# Altium schematic symbol library General.SchLib: 173 symbols (part 2 of 4)
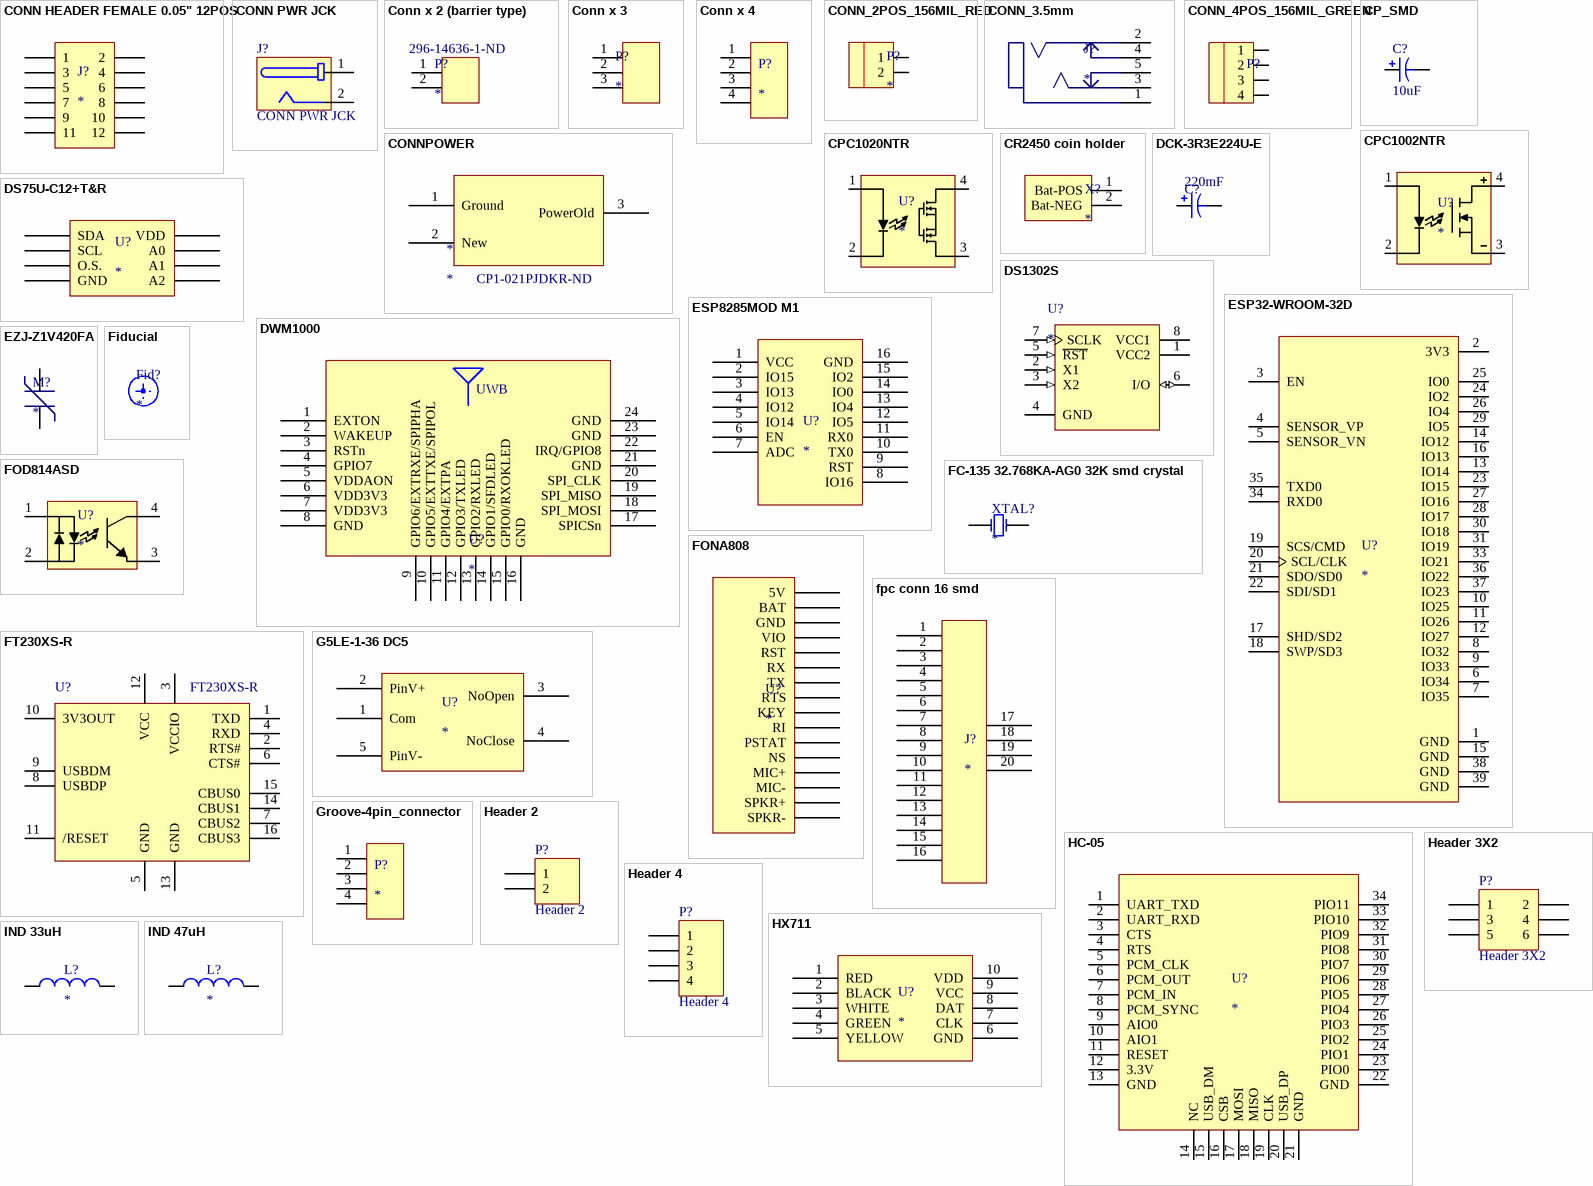
[diagram p5: symbols CONN HEADER FEMALE 0.05" 12POS to IND 47uH]

## Conn x 2 (barrier type)
designator P?  Supplier Part Number 2: 296-14636-1-ND
Manufacturer: TE Connectivity; Manufacturer Part Number: 3-1437652-9; Number of Circuits: 2; Pitch: 0.375" (9.53mm); Current Rating: 25A; Voltage Rating: 300V; Wire Gauge: 12-22 AWG; Top Termination: Screws; Bottom Termination: PC Pin; Barrier Type: 3 Wall (Tri); Material - Insulation: Thermoplastic; Material Flammability Rating: UL94 V-0; Protocol: RS422, RS485; Number of Drivers/Receivers: 1/1; Duplex: Half; Voltage - Supply: 4.75 V ~ 5.25 V; Supplier 1: Digi-Key; RoHS: RoHS Compliant; Category: Connectors, Interconnects; Stock 1: 5495; Pricing 1: 1=1.62, 10=1.14, 50=0.9652, 100=0.9609, 250=0.8114, 500=0.7687, 1000=0.68328, 2500=0.56798, 5000=0.55517 (USD); Packaging: Bulk; Terminal Block Type: Barrier Block; Number of Wire Entries: 2; Number of Rows: 1; Features: -; Color: Black; Terminal Material: Steel; Terminal Finish: Zinc, Clear Chromate; Mounting Type: Through Hole; Operating Temperature: 105°C; ComponentLink1URL: http://www.te.com/commerce/DocumentDelivery/DDEController?Action=srchrtrv&DocNm=3-1437652-9&DocType=Customer+Drawing&DocLang=English; ComponentLink1Description: http://www.te.com/commerce/DocumentDelivery/DDEController?Action=srchrtrv&DocNm=3-1437652-9&DocType=Customer+Drawing&DocLang=English; Supplier Part Number 1: A98481-ND; Supplier 2: Digi-Key; Stock 2: 20336; Pricing 2: 1=0.77, 10=0.68, 100=0.5212, 500=0.412, 1000=0.3296 (USD); Part Status: Active; Type: Transceiver; Data Rate: -; Package / Case: 8-SOIC (0.154", 3.90mm Width); Supplier Device Package: 8-SOIC; ComponentLink2URL: http://www.ti.com/lit/ds/symlink/sn65176b.pdf; ComponentLink2Description: http://www.ti.com/lit/ds/symlink/sn65176b.pdf
footprint BARRIER CONN X 2
pins: 1, 2

## Conn x 3
designator P?
CONN HEADER VERT 3POS .100 TIN; Manufacturer: TE Connectivity; Manufacturer Part Number: 640456-3; Connector Type: Header, Unshrouded; Number of Positions: 3; Number of Positions Loaded: All; Pitch: 0.100" (2.54mm); Supplier 1: Digi-Key; RoHS: RoHS Compliant; Category: Connectors, Interconnects; Stock 1: 62912; Pricing 1: 1=0.2, 10=0.185, 50=0.118, 100=0.1141, 250=0.09832, 500=0.0944, 1000=0.08259, 2500=0.07473, 5000=0.07079 (USD); Packaging: Bulk; Contact Type: Male Pin; Number of Rows: 1; Row Spacing: -; Contact Mating Length: 0.295" (7.49mm); Mounting Type: Through Hole; Termination: Solder; Fastening Type: Friction Lock; Features: -; Contact Finish: Tin; Contact Finish Thickness: -; Color: Natural; ComponentLink1URL: http://www.te.com/commerce/DocumentDelivery/DDEController?Action=srchrtrv&DocNm=640456&DocType=Customer+Drawing&DocLang=English; ComponentLink1Description: http://www.te.com/commerce/DocumentDelivery/DDEController?Action=srchrtrv&DocNm=640456&DocType=Customer+Drawing&DocLang=English; Supplier Part Number 1: A19470-ND
footprint conn x 3
pins: 1, 2, 3

## Conn x 4
designator P?
CONN HEADER VERT 4POS .100 TIN; Manufacturer: TE Connectivity; Manufacturer Part Number: 640454-4; Connector Type: Header, Unshrouded; Number of Positions: 4; Number of Positions Loaded: All; Pitch: 0.100" (2.54mm); Supplier 1: Digi-Key; RoHS: RoHS Compliant; Category: Connectors, Interconnects; Stock 1: 24607; Pricing 1: 1=0.18, 10=0.164, 50=0.1228, 100=0.114, 250=0.10088, 500=0.0965, 1000=0.07895, 2500=0.07237, 5000=0.07018 (USD); Packaging: Bulk; Contact Type: Male Pin; Number of Rows: 1; Row Spacing: -; Contact Mating Length: 0.295" (7.49mm); Mounting Type: Through Hole; Termination: Solder; Fastening Type: -; Features: Polarizing Key; Contact Finish: Tin; Contact Finish Thickness: -; Color: Natural; ComponentLink1URL: http://www.te.com/commerce/DocumentDelivery/DDEController?Action=srchrtrv&DocNm=640454&DocType=Customer+Drawing&DocLang=English; ComponentLink1Description: http://www.te.com/commerce/DocumentDelivery/DDEController?Action=srchrtrv&DocNm=640454&DocType=Customer+Drawing&DocLang=English; Supplier Part Number 1: A19431-ND
footprint conn x 4
pins: 1, 2, 3, 4

## CONN_2POS_156MIL_RED
designator P?
156mill 2pos connector; Manufacturer: TE Connectivity AMP Connectors; Manufacturer Part Number: 4-1123723-2; Connector Type: Header; Pitch - Mating: 0.156" (3.96mm); Style: Board to Cable/Wire; Shrouding: Shrouded - 1 Wall; Number of Positions: 2; Number of Positions Loaded: All; Contact Length - Mating: 0.303" (7.70mm); Contact Length - Post: 0.146" (3.70mm); Overall Contact Length: 0.567" (14.40mm); Material Flammability Rating: UL94 V-0; Current Rating: 7.5A; Voltage Rating: 250VAC; Supplier 1: Digi-Key; RoHS: RoHS Compliant; Category: Connectors, Interconnects; Stock 1: 19085; Pricing 1: 1=0.17, 10=0.158, 25=0.1352, 50=0.1182, 100=0.1098, 250=0.09712, 500=0.09288, 1000=0.076, 2500=0.06966 (USD); Packaging: Bulk; Part Status: Active; Contact Type: Male Pin; Number of Rows: 1; Row Spacing - Mating: -; Mounting Type: Through Hole; Termination: Solder; Fastening Type: Friction Lock; Insulation Height: 0.118" (3.00mm); Contact Shape: Square; Contact Finish - Mating: Tin; Contact Finish Thickness - Mating: -; Contact Finish - Post: Tin; Contact Material: Brass; Insulation Material: Polybutylene Terephthalate (PBT), Glass Filled; Features: -; Operating Temperature: -25°C ~ 105°C; Ingress Protection: -; Insulation Color: Red; Mated Stacking Heights: -; Contact Finish Thickness - Post: -; Applications: General Purpose, Industrial, Lighting; ComponentLink1URL: http://www.te.com/commerce/DocumentDelivery/DDEController?Action=srchrtrv&DocNm=1123723&DocType=Customer+Drawing&DocLang=English; ComponentLink1Description: http://www.te.com/commerce/DocumentDelivery/DDEController?Action=srchrtrv&DocNm=1123723&DocType=Customer+Drawing&DocLang=English; Supplier Part Number 1: A117603-ND
footprint CONN_2POS_156MIL
pins: 1, 2

## CONN_3.5mm
designator J?
CONN JACK STEREO 3.5MM SMD; Manufacturer: Switchcraft Inc.; Manufacturer Part Number: 35RASMT4BHNTRX; Connector Type: Phone Jack; Gender: Female; Plug/Mating Plug Diameter: 3.50mm (0.141", 1/8", Mini Plug) - Headphone; Number of Positions/Contacts: 3 Conductors, 5 Contacts; Internal Switch(s): Two Switches; Shielding: Unshielded; Color - Contact: Gold; Voltage - Rated: 250VAC; Current Rating: 3A; Supplier 1: Digi-Key; RoHS: RoHS Compliant; Category: Connectors, Interconnects; Stock 1: 3537; Pricing 1: 1=0.65 (USD); Signal Lines: Stereo; Mounting Type: Surface Mount, Right Angle; Termination: Solder; Features: -; Contact Material: Copper Alloy; Contact Material - Plating: Silver; Housing Material: Thermoplastic; Housing Color: Black; Operating Temperature: -25°C ~ 85°C; Packaging: Digi-Reel®; ComponentLink1URL: http://www.switchcraft.com/Drawings/35rasmt4bhntrx_cd.pdf; ComponentLink1Description: http://www.switchcraft.com/Drawings/35rasmt4bhntrx_cd.pdf; Supplier Part Number 1: SC1488-6-ND
footprint JACK_3.5MM
pins: 1, 2, 3, 4, 5

## CONN_4POS_156MIL_GREEN
designator P?  (value not drawn)
3.96 EP HDR ASSY 4P(GREEN); Manufacturer: TE Connectivity AMP Connectors; Manufacturer Part Number: 6-1123723-4; Connector Type: Header; Pitch - Mating: 0.156" (3.96mm); Style: Board to Cable/Wire; Shrouding: Shrouded - 1 Wall; Number of Positions: 4; Number of Positions Loaded: All; Contact Length - Mating: 0.303" (7.70mm); Contact Length - Post: 0.146" (3.70mm); Overall Contact Length: 0.567" (14.40mm); Material Flammability Rating: UL94 V-0; Current Rating: 7.5A; Voltage Rating: 250VAC; Supplier 1: Digi-Key; RoHS: RoHS Compliant; Category: Connectors, Interconnects; Stock 1: 1858; Pricing 1: 1=0.17, 10=0.158, 25=0.1176, 50=0.1008, 100=0.0974, 250=0.08396, 500=0.08062, 1000=0.07054, 2500=0.06382 (USD); Packaging: Bulk; Part Status: Active; Contact Type: Male Pin; Number of Rows: 1; Row Spacing - Mating: -; Mounting Type: Through Hole; Termination: Solder; Fastening Type: Friction Lock; Insulation Height: 0.118" (3.00mm); Contact Shape: Square; Contact Finish - Mating: Tin; Contact Finish Thickness - Mating: -; Contact Finish - Post: Tin; Contact Material: Brass; Insulation Material: Polybutylene Terephthalate (PBT), Glass Filled; Features: -; Operating Temperature: -25°C ~ 105°C; Ingress Protection: -; Insulation Color: Green; Mated Stacking Heights: -; Contact Finish Thickness - Post: -; Applications: General Purpose, Industrial, Lighting; ComponentLink1URL: http://www.te.com/commerce/DocumentDelivery/DDEController?Action=srchrtrv&DocNm=1123723&DocType=Customer+Drawing&DocLang=English; ComponentLink1Description: http://www.te.com/commerce/DocumentDelivery/DDEController?Action=srchrtrv&DocNm=1123723&DocType=Customer+Drawing&DocLang=English; Supplier Part Number 1: A116707-ND
footprint CONN_4POS_156MIL
pins: 1, 2, 3, 4

## CONNPOWER
designator *  Supplier Part Number 1: CP1-021PJDKR-ND
Supplier 1: Digi-Key
footprint CONNPOWER
pins: 1 Ground, 2 New, 3 PowerOld

## CP_SMD
designator C?, comment 10uF
Value: 10uF
footprint C_TANT_A_3216_L (Molded Capacitor, 2-Leads, Body 3,20x1,60mm, IPC High Density)
footprint C_TANT_A_3216_M (Molded Capacitor, 2-Leads, Body 3,20x1,60mm, IPC Low Density)
footprint C_TANT_A_3216_N (Molded Capacitor, 2-Leads, Body 3,20x1,60mm, IPC Medium Density)
footprint CP0805_N (Chip Capacitor, 2-Leads, Body 2.00x1.25mm, IPC Medium Density)
footprint CP0805_M (Chip Capacitor, 2-Leads, Body 2.00x1.25mm, IPC Low Density)
footprint CP0805_L (Chip Capacitor, 2-Leads, Body 2.00x1.25mm, IPC High Density)
pins: 1, 2

## CPC1002NTR
designator U?
RELAY OPTOMOS 700MA 4-SOP; Manufacturer: IXYS Integrated Circuits Division; Manufacturer Part Number: CPC1002NTR; Circuit: SPST-NO (1 Form A); Output Type: DC; On-State Resistance: 550 mOhm; Voltage - Input: 1.2VDC; Voltage - Load: 0 ~ 60 V; Supplier 1: Digi-Key; RoHS: RoHS Compliant; Category: Relays; Stock 1: 7155; Pricing 1: 1=1.71, 10=1.53, 25=1.35, 100=1.215, 250=1.05752, 500=0.945, 1000=0.7425 (USD); Packaging: Cut Tape (CT); Load Current: 700mA; Mounting Type: Surface Mount; Termination Style: Gull Wing; Package / Case: 4-SOP (0.150", 3.81mm); Supplier Device Package: 4-SOP (2.54mm); Relay Type: Relay; ComponentLink1URL: http://www.clare.com/home/pdfs.nsf/www/CPC1002N.pdf/$file/CPC1002N.pdf; ComponentLink1Description: http://www.clare.com/home/pdfs.nsf/www/CPC1002N.pdf/$file/CPC1002N.pdf; Supplier Part Number 1: CLA230CT-ND
footprint SOP4_N (SOP, 4-Leads, Body 4,09x3,81mm, Pitch 2,54mm, IPC Medium Density)
pins: 1 control+, 2 control-, 3 DC-, 4 DC+

## CPC1020NTR
designator U?
RELAY OPTOMOS 1200MA 4-SOP; Manufacturer: IXYS Integrated Circuits Division; Manufacturer Part Number: CPC1020NTR; Circuit: SPST-NO (1 Form A); Output Type: AC, DC; On-State Resistance: 250 mOhm; Load Current: 1.2A; Voltage - Input: 1.2VDC; Voltage - Load: 0 ~ 30 V; Supplier 1: Digi-Key; RoHS: RoHS Compliant; Category: Relays; Stock 1: 34319; Pricing 1: 1=3.12, 10=2.808, 25=2.548, 100=2.288, 250=2.08, 500=1.82, 1000=1.56 (USD); Packaging: Cut Tape (CT); Mounting Type: Surface Mount; Termination Style: Gull Wing; Package / Case: 4-SOP (0.150", 3.81mm); Supplier Device Package: 4-SOP (2.54mm); Relay Type: Relay; ComponentLink1URL: http://www.clare.com/home/pdfs.nsf/www/CPC1020N.pdf/$file/CPC1020N.pdf; ComponentLink1Description: http://www.clare.com/home/pdfs.nsf/www/CPC1020N.pdf/$file/CPC1020N.pdf; Supplier Part Number 1: CLA318CT-ND
footprint SOP4_N (SOP, 4-Leads, Body 4,09x3,81mm, Pitch 2,54mm, IPC Medium Density)
pins: 1 control+, 2 control-, 3 DC-, 4 DC+

## CR2450 coin holder
designator X?
RETAINER 2450 COIN CELL SMD; Manufacturer: MPD (Memory Protection Devices); Manufacturer Part Number: BK-877; Battery Type, Function: Coin Cell, Retainer; Battery Cell Size: Coin, 24.5mm; Number of Cells: 1; Battery Series: 2450; Supplier 1: Digi-Key; RoHS: RoHS Compliant; Category: Battery Products; Stock 1: 908; Pricing 1: 1=0.4, 10=0.367, 100=0.3333, 500=0.303, 1000=0.2828 (USD); Part Status: Active; Style: Retainer; Mounting Type: PCB, Surface Mount; Termination Style: SMD (SMT) Tab; Height Above Board: 0.230" (5.85mm); Operating Temperature: -; ComponentLink1URL: http://www.memoryprotectiondevices.com/datasheets/BK-877-datasheet.pdf; ComponentLink1Description: http://www.memoryprotectiondevices.com/datasheets/BK-877-datasheet.pdf; Supplier Part Number 1: BK-877-ND
footprint CR2450 holder
pins: 1 Bat-POS, 2 Bat-NEG

## DCK-3R3E224U-E
designator C?  Capacitance: 220mF  (hidden comment: *)
CAP 220MF -20% +80% 3.3V SMD; Manufacturer: Elna America; Manufacturer Part Number: DCK-3R3E224U-E; Tolerance: -20%, +80%; ESR (Equivalent Series Resistance): 200 Ohm @ 1kHz; Lifetime @ Temp.: 1000 Hrs @ 60°C; Supplier 1: Digi-Key; RoHS: RoHS Compliant; Category: Capacitors; Stock 1: 16325; Pricing 1: 1=1.41, 10=1.114, 25=1.0208, 50=0.9652, 100=0.8352, 250=0.7424, 500=0.63104, 1000=0.5568, 5000=0.50112 (USD); Packaging: Bulk; Voltage - Rated: 3.3V; Termination: Solder Pads; Mounting Type: Surface Mount; Package / Case: Coin, Wide Terminals - Same Sides; Lead Spacing: -; Size / Dimension: 0.268" Dia (6.80mm); Height - Seated (Max): 0.083" (2.10mm); Operating Temperature: -10°C ~ 60°C; ComponentLink1URL: http://media.digikey.com/pdf/Data%20Sheets/Elna%20America%20Inc/DC_DCKe.pdf; ComponentLink1Description: http://media.digikey.com/pdf/Data%20Sheets/Elna%20America%20Inc/DC_DCKe.pdf; Supplier Part Number 1: 604-1007-ND
footprint SuperCap-Elna
pins: 1, 2

## DS75U-C12+T&R
designator U?
SENSOR TEMPERATURE I2C 8UMAX; Manufacturer: Maxim Integrated; Manufacturer Part Number: DS75U-C12+T&R; Sensor Type: Digital, Local; Sensing Temperature - Local: -55°C ~ 125°C; Output Type: I²C; Voltage - Supply: 2.7 V ~ 5.5 V; Resolution: 11 b; Accuracy - Highest (Lowest): ±2°C (±3°C); Test Condition: -25°C ~ 100°C (-55°C ~ 125°C); Supplier 1: Digi-Key; RoHS: RoHS Compliant; Category: Sensors, Transducers; Stock 1: 5201; Pricing 1: 1=0.65, 10=0.61, 25=0.49, 50=0.47, 100=0.43, 250=0.41, 500=0.39 (USD); Packaging: Cut Tape (CT); Part Status: Active; Sensing Temperature - Remote: -; Features: Output Switch, Programmable Limit, Programmable Resolution, Shutdown Mode, Standby Mode; Operating Temperature: -55°C ~ 125°C; Mounting Type: Surface Mount; Package / Case: 8-TSSOP, 8-MSOP (0.118", 3.00mm Width); Supplier Device Package: 8-uMAX; ComponentLink1URL: https://datasheets.maximintegrated.com/en/ds/DS75.pdf; ComponentLink1Description: https://datasheets.maximintegrated.com/en/ds/DS75.pdf; Supplier Part Number 1: DS75U-C12+T&RCT-ND
footprint uMAX8_L (TSOP, 8-Leads, Body 3.00x3.00mm, Pitch 0.65mm, IPC High Density)
footprint uMAX8_M (TSOP, 8-Leads, Body 3.00x3.00mm, Pitch 0.65mm, IPC Low Density)
footprint uMAX8_N (TSOP, 8-Leads, Body 3.00x3.00mm, Pitch 0.65mm, IPC Medium Density)
pins: 1 SDA, 2 SCL, 3 O.S., 4 GND, 5 A2, 6 A1, 7 A0, 8 VDD

## DS1302S
designator U?
IC TIMEKEEPER T-CHARGE 8-SOIC; Manufacturer: Maxim Integrated; Manufacturer Part Number: DS1302S+T&R; Memory Size: 31B; Time Format: HH:MM:SS (12/24 hr); Date Format: YY-MM-DD-dd; Interface: 3-Wire Serial; Voltage - Supply: 2 V ~ 5.5 V; Supplier 1: Digi-Key; RoHS: RoHS Compliant; Category: Integrated Circuits (ICs); Stock 1: 2031; Pricing 1: 1=3.05, 10=2.882, 25=2.3052, 50=2.19, 100=2.0171, 250=1.91332, 500=1.84416 (USD); Packaging: Cut Tape (CT); Type: Clock/Calendar; Features: Leap Year, NVSRAM, Trickle-Charger; Voltage - Supply, Battery: 2 V ~ 5.5 V; Operating Temperature: 0°C ~ 70°C; Mounting Type: Surface Mount; Package / Case: 8-SOIC (0.209", 5.30mm Width); Supplier Device Package: 8-SO; ComponentLink1URL: http://datasheets.maximintegrated.com/en/ds/DS1302.pdf; ComponentLink1Description: http://datasheets.maximintegrated.com/en/ds/DS1302.pdf; Supplier Part Number 1: DS1302S
footprint SOIC8WA_L (SOP, 8-Leads, Body 5.3x5.3mm, Pitch 1.27mm, IPC High Density)
footprint SOIC8WA_M (SOP, 8-Leads, Body 5.3x5.3mm, Pitch 1.27mm, IPC Low Density)
footprint SOIC8WA_N (SOP, 8-Leads, Body 5.3x5.3mm, Pitch 1.27mm, IPC Medium Density)
pins: 1 VCC2 (power), 2 X1 (in), 3 X2 (in), 4 GND (power), 5 ~{RST} (in), 6 I/O (io), 7 SCLK (in), 8 VCC1 (power)

## DWM1000
designator U?
RF TXRX MODULE 802.15.4 CHIP ANT; Manufacturer: Decawave Limited; Manufacturer Part Number: DWM1000; Protocol: IR-UWB; Modulation: BPM, BPSK; Frequency: 3.5GHz ~ 6.5GHz; Data Rate: 6.8Mbps; Serial Interfaces: SPI; Antenna Type: Integrated, Chip; Voltage - Supply: 2.8 V ~ 3.6 V; Current - Receiving: 64mA; Current - Transmitting: 31mA; Supplier 1: Digi-Key; RoHS: RoHS Compliant; Category: RF/IF and RFID; Stock 1: 34389; Pricing 1: 1=25.59, 10=23.625, 25=21.6564, 100=20.0156, 250=19.03124 (USD); Packaging: Cut Tape (CT); Part Status: Active; RF Family/Standard: 802.15.4; Power - Output: -; Sensitivity: -; Memory Size: -; Mounting Type: Surface Mount; Operating Temperature: -40°C ~ 85°C; Package / Case: Module; ComponentLink1URL: http://www.decawave.com/sites/default/files/resources/DWM1000-Datasheet-V1.6.pdf; ComponentLink1Description: http://www.decawave.com/sites/default/files/resources/DWM1000-Datasheet-V1.6.pdf; Supplier Part Number 1: 1479-1002-1-ND
footprint DWM1000
pins: 1 EXTON, 2 WAKEUP, 3 RSTn, 4 GPIO7, 5 VDDAON, 6 VDD3V3, 7 VDD3V3, 8 GND, 9 GPIO6/EXTRXE/SPIPHA, 10 GPIO5/EXTTXE/SPIPOL, 11 GPIO4/EXTPA, 12 GPIO3/TXLED, 13 GPIO2/RXLED, 14 GPIO1/SFDLED, 15 GPIO0/RXOKLED, 16 GND, 17 SPICSn, 18 SPI_MOSI, 19 SPI_MISO, 20 SPI_CLK, 21 GND, 22 IRQ/GPIO8, 23 GND, 24 GND
text: UWB

## ESP32-WROOM-32D
designator U?
WIFI MODULE 32MBITS SPI FLASH; Manufacturer: Espressif Systems; Manufacturer Part Number: ESP32-WROOM-32D; Utilized IC / Part: ESP32-D0WD; RF Family/Standard: Bluetooth, WiFi; Protocol: 802.11b/g/n, Bluetooth v4.2 + EDR, Class 1, 2 and 3; Modulation: CCK, DSSS, OFDM; Frequency: 2.4GHz ~ 2.5GHz; Data Rate: 150Mbps; Power - Output: 20.5dBm; Sensitivity: -98dBm; Serial Interfaces: GPIO, I²C, I²S, PWM, SDIO, SPI, UART; Antenna Type: Integrated, Trace; Memory Size: 448kB ROM, 536kB SRAM; Voltage - Supply: 2.7 V ~ 3.6 V; Supplier 1: Digi-Key; RoHS: RoHS Compliant; Category: RF/IF and RFID; Stock 1: 452; Pricing 1: 1=6.8, 10=6.237, 25=5.67, 100=5.103, 250=4.67776 (USD); Packaging: Cut Tape (CT); Part Status: Active; Current - Receiving: -; Current - Transmitting: -; Mounting Type: Surface Mount; Operating Temperature: -40°C ~ 85°C; Package / Case: 38-SMD Module; ComponentLink1URL: https://www.espressif.com/sites/default/files/documentation/esp32-wroom-32d_esp32-wroom-32u_datasheet_en.pdf; ComponentLink1Description: https://www.espressif.com/sites/default/files/documentation/esp32-wroom-32d_esp32-wroom-32u_datasheet_en.pdf; Supplier Part Number 1: 1904-1023-1-ND
footprint ESP32-WROOM-32D
footprint ESP32_WROOM_32U
pins: 1 GND, 2 3V3, 3 EN, 4 SENSOR_VP, 5 SENSOR_VN, 6 IO34, 7 IO35, 8 IO32, 9 IO33, 10 IO25, 11 IO26, 12 IO27, 13 IO14, 14 IO12, 15 GND, 16 IO13, 17 SHD/SD2, 18 SWP/SD3, 19 SCS/CMD, 20 SCL/CLK, 21 SDO/SD0, 22 SDI/SD1, 23 IO15, 24 IO2, 25 IO0, 26 IO4, 27 IO16, 28 IO17, 29 IO5, 30 IO18, 31 IO19, 33 IO21, 34 RXD0, 35 TXD0, 36 IO22, 37 IO23, 38 GND, 39 GND

## ESP8285MOD M1
designator U?
footprint ESP8285MOD
pins: 1 VCC, 2 IO15, 3 IO13, 4 IO12, 5 IO14, 6 EN, 7 ADC, 8 IO16, 9 RST, 10 TX0, 11 RX0, 12 IO5, 13 IO4, 14 IO0, 15 IO2, 16 GND

## EZJ-Z1V420FA
designator M?
VARISTOR 42V 15A 0603; Manufacturer: Panasonic Electronic Components; Manufacturer Part Number: EZJ-Z1V420FA; Number of Circuits: 1; Maximum DC Volts: 30VDC; Supplier 1: Digi-Key; RoHS: RoHS Compliant; Category: Circuit Protection; Stock 1: 5765; Pricing 1: 1=0.35, 10=0.195, 100=0.1203, 500=0.09778, 1000=0.08797 (USD); Packaging: Cut Tape (CT); Varistor Voltage (Min): 42V; Current - Surge: 15A; Maximum AC Volts: -; Energy: -; Package / Case: 0603 (1608 Metric); ComponentLink1URL: http://industrial.panasonic.com/www-cgi/jvcr13pz.cgi?E+PZ+3+AWC0002+EZJZ1V420FA+7+WW; ComponentLink1Description: http://industrial.panasonic.com/www-cgi/jvcr13pz.cgi?E+PZ+3+AWC0002+EZJZ1V420FA+7+WW; Supplier Part Number 1: P13699CT-ND
footprint R0603_L (Chip Resistor, 2-Leads, Body 1,60x0,85mm, IPC High Density)
footprint R0603_M (Chip Resistor, 2-Leads, Body 1,60x0,85mm, IPC Low Density)
footprint R0603_N (Chip Resistor, 2-Leads, Body 1,60x0,85mm, IPC Medium Density)
pins: 1, 2

## FC-135 32.768KA-AG0 32K smd crystal
designator XTAL?
CRYSTAL 32.7680KHZ 7PF SMD; Manufacturer: EPSON; Manufacturer Part Number: FC-135 32.768KA-AG0; Frequency Tolerance: ±20ppm; Operating Mode: Fundamental; Supplier 1: Digi-Key; RoHS: RoHS Compliant; Category: Crystals, Oscillators, Resonators; Stock 1: 404; Pricing 1: 1=0.41, 10=0.344, 50=0.3094, 100=0.275, 500=0.26126 (USD); Packaging: Cut Tape (CT); Part Status: Active; Type: kHz Crystal (Tuning Fork); Frequency Stability: -; Load Capacitance: 7pF; Operating Temperature: -40°C ~ 85°C; Ratings: -; Mounting Type: Surface Mount; Package / Case: 2-SMD, No Lead; Size / Dimension: 0.126" L x 0.061" W (3.20mm x 1.50mm); Height - Seated (Max): 0.035" (0.90mm); ComponentLink1URL: https://support.epson.biz/td/api/doc_check.php?dl=brief_FC-135&lang=en; ComponentLink1Description: https://support.epson.biz/td/api/doc_check.php?dl=brief_FC-135&lang=en; Supplier Part Number 1: SER4089CT-ND
footprint xtal smd 32k 2pads
pins: 1 OSC1, 2 OSC2

## Fiducial
designator Fid?
Fiducial
footprint Fiducial-40mil_L
footprint Fiducial-40mil_M

## FOD814ASD
designator U?
OPTOISOLATOR 5KV TRANSISTOR 4SMD; Manufacturer: ON Semiconductor; Manufacturer Part Number: FOD814ASD; Voltage - Isolation: 5000Vrms; Current Transfer Ratio (Min): 50% @ 1mA; Current Transfer Ratio (Max): 150% @ 1mA; Rise / Fall Time (Typ): 4µs, 3µs; Input Type: AC, DC; Voltage - Output (Max): 70V; Current - Output / Channel: 50mA; Voltage - Forward (Vf) (Typ): 1.2V; Vce Saturation (Max): 200mV; Supplier 1: Digi-Key; RoHS: RoHS Compliant; Category: Isolators; Stock 1: 15206; Pricing 1: 1=0.7, 10=0.547, 100=0.393, 500=0.30178 (USD); Packaging: Cut Tape (CT); Part Status: Active; Turn On / Turn Off Time (Typ): -; Output Type: Transistor; Operating Temperature: -55°C ~ 105°C; Mounting Type: Surface Mount; Package / Case: 4-SMD, Gull Wing; Supplier Device Package: 4-SMD; ComponentLink1URL: http://www.onsemi.com/pub/Collateral/FOD814-D.PDF; ComponentLink1Description: http://www.onsemi.com/pub/Collateral/FOD814-D.PDF; Supplier Part Number 1: FOD814ASDCT-ND
footprint SMD_4_L (SOP, 4-Leads, Body 3.48x6.50mm, Pitch 2.54mm, IPC High Density)
footprint SMD_4_M (SOP, 4-Leads, Body 3.48x6.50mm, Pitch 2.54mm, IPC Low Density)
footprint SMD_4_N (SOP, 4-Leads, Body 3.48x6.50mm, Pitch 2.54mm, IPC Medium Density)
pins: 1 control+, 2 control-, 3 DC-, 4 DC+

## FONA808
designator U?
footprint FONA808
pins: 1 5V, 2 BAT, 3 GND, 4 VIO, 5 RST, 6 RX, 7 TX, 8 RTS, 9 KEY, 10 RI, 11 PSTAT, 12 NS, 13 MIC+, 14 MIC-, 15 SPKR+, 16 SPKR-

## fpc conn 16 smd
designator J?
Conn FPC Connector SKT 16 POS 1mm Solder ST SMD Easy-On™ T/R; Manufacturer: Molex; Manufacturer Part Number: 0525591652; Actuator Material: Polyphenylene; Contact Resistance: 20mR; Current Rating: 500mA; Voltage Rating: 50V; Number of Positions: 16; Voltage Rating (AC): 500V; Voltage Rating (DC): 700V; Wire/Cable Type: Straight; Supplier 1: Digi-Key; Stock 1: 3790; Pricing 1: 1=2.29, 10=2.082, 25=1.954, 50=1.8692, 100=1.7842, 250=1.6143, 500=1.4869 (USD); Mount: Surface Mount; Contact Material: Bronze; Contact Plating: Gold; Housing Material: Nylon; Min Operating Temperature: -40°C; Max Operating Temperature: 85°C; Number of Rows: 1; Packaging: Tape and Reel; Package Quantity: 1000; Termination: Solder; Max Voltage Rating (DC): 50V; Orientation: Straight; Max Voltage Rating (AC): 50V; Length: 13.7mm; Pitch: 1mm; Depth: 3.5mm; Radiation Hardening: No; Flammability Rating: UL94 V-0; ComponentLink1URL: https://www.verical.com/server-webapp/html/getDatasheet?partID=782382&src-supplier=Verical; ComponentLink1Description: https://www.verical.com/server-webapp/html/getDatasheet?partID=782382&src-supplier=Verical; ComponentLink2URL: http://www.molex.com/pdm_docs/sd/525591652_sd.pdf?src-supplier=Digi-Key; ComponentLink2Description: http://www.molex.com/pdm_docs/sd/525591652_sd.pdf?src-supplier=Digi-Key; ComponentLink3URL: http://components.arrow.com/part/dataview/46522127S9711393N3303?src-supplier=Arrow; ComponentLink3Description: http://components.arrow.com/part/dataview/46522127S9711393N3303?src-supplier=Arrow; Supplier Part Number 1: WM10839CT-ND
footprint FPC_conn_16
pins: 1 0, 2 1, 3 2, 4 3, 5 4, 6 5, 7 6, 8 7, 9 8, 10 9, 11 10, 12 11, 13 12, 14 13, 15 14, 16 15, 17 16, 18 17, 19 18, 20 19

## FT230XS-R
designator U?
IC USB SERIAL BASIC UART 16SSOP; Manufacturer: FTDI, Future Technology Devices International Ltd; Function: Bridge, USB to UART; Standards: USB 2.0; Voltage - Supply: 3.3 V ~ 5 V; Current - Supply: 8mA; Supplier 1: Digi-Key; Manufacturer Part Number: FT230XS-R; RoHS: RoHS Compliant; Category: Integrated Circuits (ICs); Stock 1: 44322; Pricing 1: 1=2.04, 25=1.97, 100=1.9, 250=1.71, 500=1.54, 1000=1.4875 (USD); Packaging: Cut Tape (CT); Protocol: USB; Interface: UART; Operating Temperature: -40°C ~ 85°C; Package / Case: 16-SSOP (0.154", 3.90mm Width); Supplier Device Package: 16-SSOP; ComponentLink1URL: http://www.ftdichip.com/Support/Documents/DataSheets/ICs/DS_FT230X.pdf; ComponentLink1Description: http://www.ftdichip.com/Support/Documents/DataSheets/ICs/DS_FT230X.pdf; Supplier Part Number 1: 768-1135-1-ND
footprint SSOP-16_N (SOP, 16-Leads, Body 4,90x3,90mm, Pitch 0,64mm, IPC Medium Density)
footprint SSOP-16_M (SOP, 16-Leads, Body 4,90x3,90mm, Pitch 0,64mm, IPC Low Density)
footprint SSOP-16_L (SOP, 16-Leads, Body 4,90x3,90mm, Pitch 0,64mm, IPC High Density)
pins: 1 TXD, 2 RTS#, 3 VCCIO, 4 RXD, 5 GND, 6 CTS#, 7 CBUS2, 8 USBDP, 9 USBDM, 10 3V3OUT, 11 /RESET, 12 VCC, 13 GND, 14 CBUS1, 15 CBUS0, 16 CBUS3

## G5LE-1-36 DC5
designator U?
RELAY GEN PURPOSE SPDT 10A 5V; Manufacturer: Omron Electronics Inc-EMC Div; Manufacturer Part Number: G5LE-1-36 DC5; Relay Type: General Purpose; Coil Type: Non Latching; Coil Current: 72mA; Coil Voltage: 5VDC; Contact Form: SPDT (1 Form C); Switching Voltage: 250VAC, 125VDC - Max; Turn On Voltage (Max): 3.75 VDC; Turn Off Voltage (Min): 0.5 VDC; Operate Time: 10ms; Release Time: 5ms; Coil Power: 360 mW; Coil Resistance: 70 Ohms; Supplier 1: Digi-Key; RoHS: RoHS Compliant; Category: Relays; Stock 1: 20; Pricing 1: 1=1.45, 10=1.361, 25=1.21, 50=1.1494, 100=1.0889, 250=0.96788, 500=0.90738, 1000=0.84689, 2500=0.83176 (USD); Packaging: Bulk; Contact Rating (Current): 10A; Features: Insulation - Class B, Sealed - Flux Protection; Mounting Type: Through Hole; Termination Style: PC Pin; Contact Material: Silver Tin Oxide (AgSnO); Operating Temperature: -40°C ~ 85°C; ComponentLink1URL: http://www.components.omron.com/components/web/PDFLIB.nsf/0/0293ACA6B03161CD86257538007424DB/$file/G5LE_0813.pdf; ComponentLink1Description: http://www.components.omron.com/components/web/PDFLIB.nsf/0/0293ACA6B03161CD86257538007424DB/$file/G5LE_0813.pdf; Supplier Part Number 1: G5LE-1-36DC5-ND
footprint Relay 5V
pins: 1 Com, 2 PinV+, 3 NoOpen, 4 NoClose, 5 PinV-

## Groove-4pin_connector
designator P?
footprint groove_connector4
pins: 1, 2, 3, 4

## HC-05
designator U?
Bluetooth RS232 module
footprint HC-05
pins: 1 UART_TXD, 2 UART_RXD, 3 CTS, 4 RTS, 5 PCM_CLK, 6 PCM_OUT, 7 PCM_IN, 8 PCM_SYNC, 9 AIO0, 10 AIO1, 11 RESET, 12 3.3V, 13 GND, 14 NC, 15 USB_DM, 16 CSB, 17 MOSI, 18 MISO, 19 CLK, 20 USB_DP, 21 GND, 22 GND, 23 PIO0, 24 PIO1, 25 PIO2, 26 PIO3, 27 PIO4, 28 PIO5, 29 PIO6, 30 PIO7, 31 PIO8, 32 PIO9, 33 PIO10, 34 PIO11

## Header 2
designator P?
Header, 2-Pin; LatestRevisionDate: 17-Jul-2002; LatestRevisionNote: Re-released for DXP Platform.; Publisher: Altium Limited
footprint HDR1X2 (Connector; Header; 2 Position)
signal-integrity model Connector
pins: 1, 2

## Header 3X2
designator P?
Header, 3-Pin, Dual row; LatestRevisionDate: 17-Jul-2002; LatestRevisionNote: Re-released for DXP Platform.; Publisher: Altium Limited
footprint HDR2X3 (Connector; Header; 3x2 Position)
signal-integrity model Connector
pins: 1, 2, 3, 4, 5, 6

## Header 4
designator P?
Header, 4-Pin; LatestRevisionDate: 17-Jul-2002; LatestRevisionNote: Re-released for DXP Platform.; Publisher: Altium Limited
footprint HDR1X4 (Connector; Header; 4 Position)
signal-integrity model Connector
pins: 1, 2, 3, 4

## HX711
designator U?
footprint HX711
pins: 1 RED, 2 BLACK, 3 WHITE, 4 GREEN, 5 YELLOW, 6 GND, 7 CLK, 8 DAT, 9 VCC, 10 VDD

## IND 33uH
designator L?
INDUCTOR POWER 33UH 5.5A SMD; Manufacturer: Wurth Electronics Inc; Manufacturer Part Number: 7443551331; Type: Wirewound; Inductance: 33µH; Tolerance: ±20%; Shielding: Shielded; DC Resistance (DCR): 30.5 mOhm; Frequency - Self Resonant: 11MHz; Frequency - Test: 100kHz; Supplier 1: Digi-Key; RoHS: RoHS Compliant; Category: Inductors, Coils, Chokes; Stock 1: 2103; Pricing 1: 1=3.71, 10=3.575, 50=3.3, 100=3.1625, 200=2.95625 (USD); Packaging: Cut Tape (CT); Material - Core: -; Current Rating: 5.5A; Current - Saturation: 5.5A; Q @ Freq: -; Operating Temperature: -40°C ~ 155°C; Mounting Type: Surface Mount; Package / Case: Non Standard; Size / Dimension: 0.512" L x 0.504" W (13.00mm x 12.80mm); Height - Seated (Max): 0.256" (6.50mm); Supplier Device Package: -; ComponentLink1URL: http://katalog.we-online.de/pbs/datasheet/7443551331.pdf; ComponentLink1Description: http://katalog.we-online.de/pbs/datasheet/7443551331.pdf; Supplier Part Number 1: 732-3881-1-ND
footprint WW_IND_L (Precision Wire Wound Inductor, 2-Leads, Body 12,50x12,80mm, IPC High Density)
footprint WW_IND_M (Precision Wire Wound Inductor, 2-Leads, Body 12,50x12,80mm, IPC Low Density)
footprint WW_IND_N (Precision Wire Wound Inductor, 2-Leads, Body 12,50x12,80mm, IPC Medium Density)
pins: 1, 2

## IND 47uH
designator L?
IND 47uH; Manufacturer: Bourns Inc.; Manufacturer Part Number: 2000-470-V-RC; Type: Toroidal; Inductance: 47µH; Tolerance: ±15%; Current Rating: 3.2A; Shielding: Unshielded; DC Resistance (DCR): 64 mOhm Max; Supplier 1: Digi-Key; RoHS: RoHS Compliant; Category: Inductors, Coils, Chokes; Stock 1: 6249; Pricing 1: 1=1.79, 10=1.656, 25=1.518, 50=1.2972, 100=1.1592, 250=0.9936, 500=0.9384, 1000=0.9177 (USD); Packaging: Bulk; Part Status: Active; Material - Core: -; Current - Saturation: -; Q @ Freq: -; Frequency - Self Resonant: -; Ratings: -; Operating Temperature: -55°C ~ 105°C; Mounting Type: Through Hole; Package / Case: Radial, Vertical (Open); Supplier Device Package: -; Size / Dimension: 0.680" Dia x 0.410" W (17.27mm x 10.41mm); Height - Seated (Max): -; ComponentLink1URL: http://www.bourns.com/docs/Product-Datasheets/2000_series.pdf; ComponentLink1Description: http://www.bourns.com/docs/Product-Datasheets/2000_series.pdf; Supplier Part Number 1: 2000-470-V-RC-ND
footprint IND_BOB
pins: 1, 2

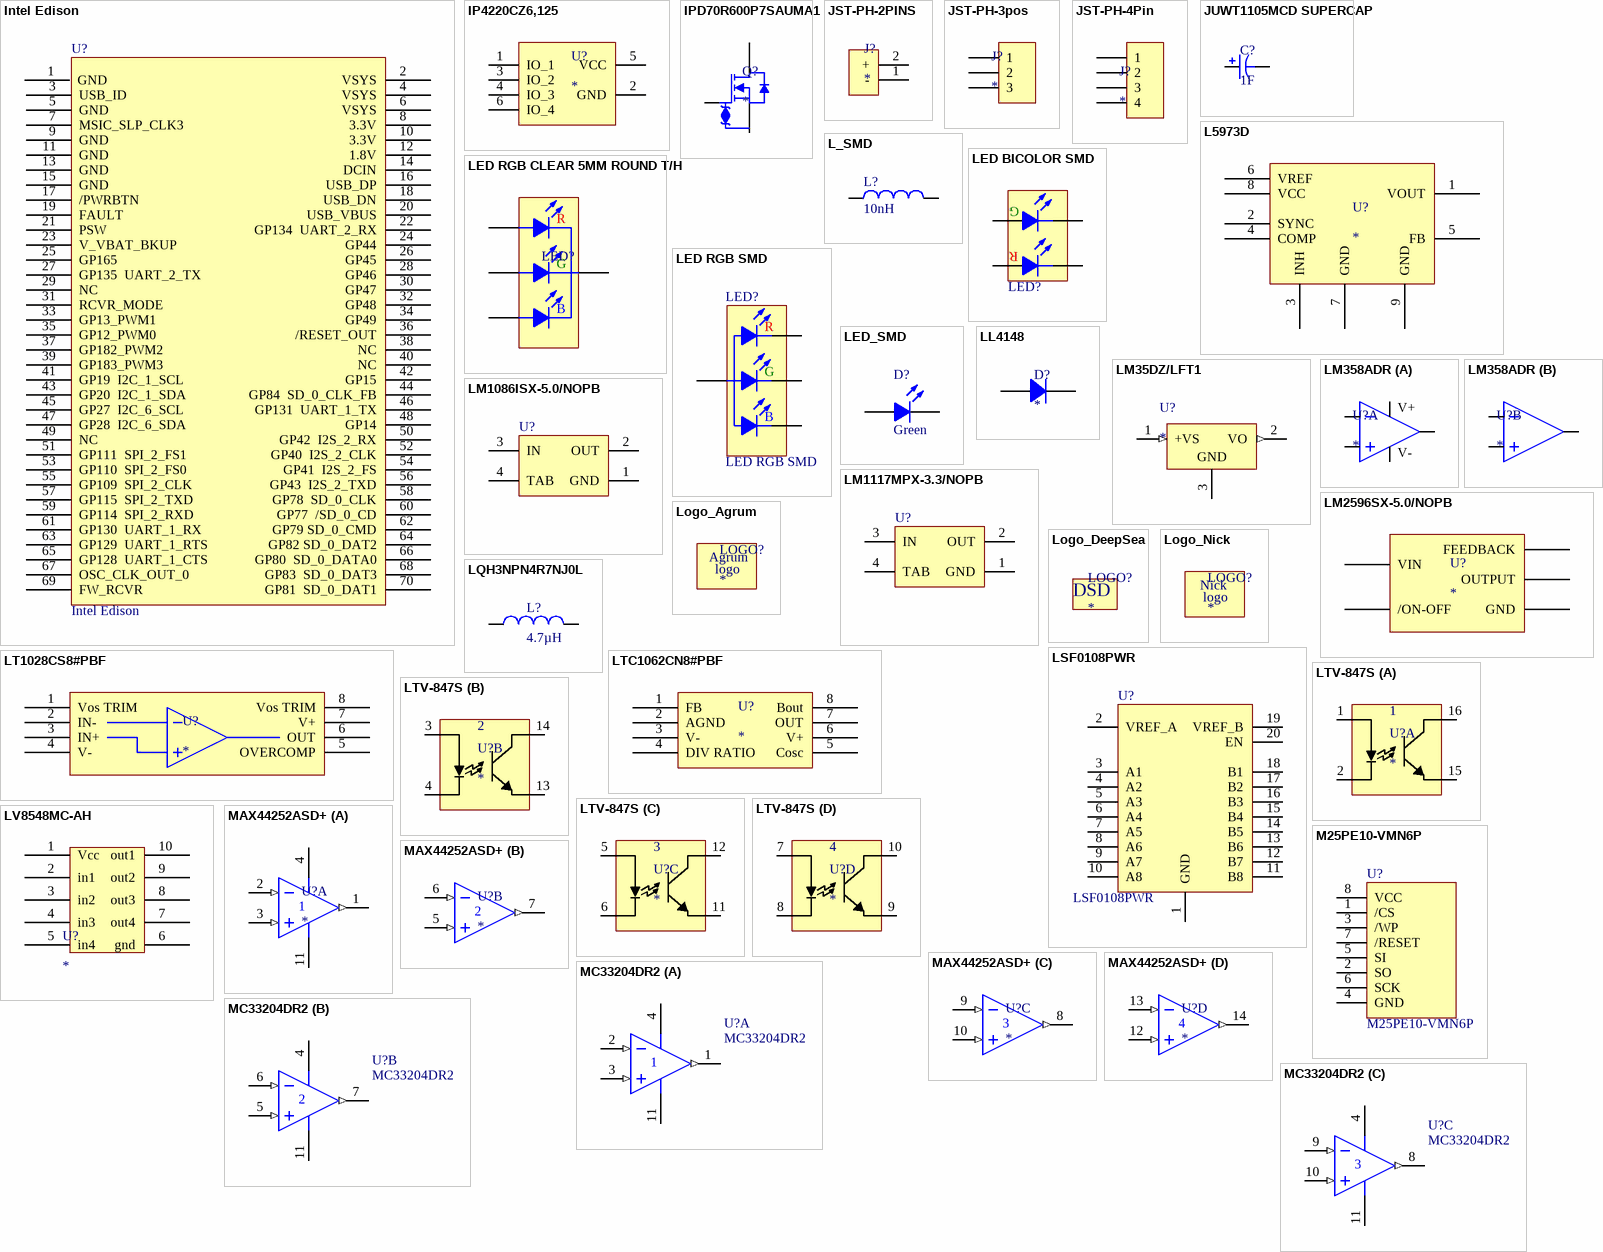
[diagram p2: symbols Intel Edison to MC33204DR2]

## Intel Edison
designator U?
footprint INTEL_EDISON_N
footprint Intel_Edison_L
pins: 1 GND, 2 VSYS, 3 USB_ID, 4 VSYS, 5 GND, 6 VSYS, 7 MSIC_SLP_CLK3, 8 3.3V, 9 GND, 10 3.3V, 11 GND, 12 1.8V, 13 GND, 14 DCIN, 15 GND, 16 USB_DP, 17 /PWRBTN, 18 USB_DN, 19 FAULT, 20 USB_VBUS, 21 PSW, 22 GP134  UART_2_RX, 23 V_VBAT_BKUP, 24 GP44, 25 GP165, 26 GP45, 27 GP135  UART_2_TX, 28 GP46, 29 NC, 30 GP47, 31 RCVR_MODE, 32 GP48, 33 GP13_PWM1, 34 GP49, 35 GP12_PWM0, 36 /RESET_OUT, 37 GP182_PWM2, 38 NC, 39 GP183_PWM3, 40 NC, 41 GP19  I2C_1_SCL, 42 GP15, 43 GP20  I2C_1_SDA, 44 GP84  SD_0_CLK_FB, 45 GP27  I2C_6_SCL, 46 GP131  UART_1_TX, 47 GP28  I2C_6_SDA, 48 GP14, 49 NC, 50 GP42  I2S_2_RX, 51 GP111  SPI_2_FS1, 52 GP40  I2S_2_CLK, 53 GP110  SPI_2_FS0, 54 GP41  I2S_2_FS, 55 GP109  SPI_2_CLK, 56 GP43  I2S_2_TXD, 57 GP115  SPI_2_TXD, 58 GP78  SD_0_CLK, 59 GP114  SPI_2_RXD, 60 GP77  /SD_0_CD, 61 GP130  UART_1_RX, 62 GP79 SD_0_CMD, 63 GP129  UART_1_RTS, 64 GP82 SD_0_DAT2, 65 GP128  UART_1_CTS, 66 GP80  SD_0_DATA0, 67 OSC_CLK_OUT_0, 68 GP83  SD_0_DAT3, 69 FW_RCVR, 70 GP81  SD_0_DAT1

## IP4220CZ6,125
designator U?
IC USB DUAL ESD PROTECT 6TSOP; Manufacturer: NXP Semiconductors; Manufacturer Part Number: IP4220CZ6,125; Voltage - Working: 5.5V; Number of Circuits: 4; Supplier 1: Digi-Key; RoHS: RoHS Compliant; Category: Circuit Protection; Stock 1: 1333; Pricing 1: 1=0.54, 10=0.42, 25=0.3544, 100=0.2888, 250=0.2392, 500=0.1976, 1000=0.148 (USD); Packaging: Cut Tape (CT); Voltage - Clamping: -; Technology: Mixed Technology; Power (Watts): -; Applications: USB; Package / Case: SC-74, SOT-457; Supplier Device Package: 6-TSOP; ComponentLink1URL: http://www.nxp.com/documents/data_sheet/IP4220CZ6.pdf; ComponentLink1Description: http://www.nxp.com/documents/data_sheet/IP4220CZ6.pdf; Supplier Part Number 1: 568-3529-1-ND
footprint SOT457_L (TSOP, 6-Leads, Body 2,90x1,50mm, Pitch 0,95mm, IPC High Density)
footprint SOT457_M (TSOP, 6-Leads, Body 2,90x1,50mm, Pitch 0,95mm, IPC Low Density)
footprint SOT457_N (TSOP, 6-Leads, Body 2,90x1,50mm, Pitch 0,95mm, IPC Medium Density)
pins: 1 IO_1, 2 GND, 3 IO_2, 4 IO_3, 5 VCC, 6 IO_4

## IPD70R600P7SAUMA1
designator Q?
MOSFET N-CH 700V 8.5A TO252-3; Manufacturer: Infineon Technologies; Manufacturer Part Number: IPD70R600P7SAUMA1; FET Type: N-Channel; Current - Continuous Drain (Id) @ 25°C: 8.5A (Tc); Drive Voltage (Max Rds On,  Min Rds On): 10V; Rds On (Max) @ Id, Vgs: 600 mOhm @ 1.8A, 10V; Vgs(th) (Max) @ Id: 3.5V @ 90µA; Vgs (Max): ±16V; Power Dissipation (Max): 43W (Tc); Supplier 1: Digi-Key; RoHS: RoHS Compliant; Category: Discrete Semiconductor Products; Stock 1: 2354; Pricing 1: 1=1.02, 10=0.895, 100=0.7004, 500=0.52978, 1000=0.43224 (USD); Packaging: Cut Tape (CT); Part Status: Active; Technology: MOSFET (Metal Oxide); FET Feature: -; Operating Temperature: -40°C ~ 150°C (TJ); Mounting Type: Surface Mount; Supplier Device Package: PG-TO252-3; Package / Case: TO-252-3, DPak (2 Leads + Tab), SC-63; ComponentLink1URL: https://www.infineon.com/dgdl/Infineon-IPD70R600P7S-DS-v02_00-EN.pdf?fileId=5546d462584d1d4a0158cf7799fb0d79; ComponentLink1Description: https://www.infineon.com/dgdl/Infineon-IPD70R600P7S-DS-v02_00-EN.pdf?fileId=5546d462584d1d4a0158cf7799fb0d79; Supplier Part Number 1: IPD70R600P7SAUMA1CT-ND
footprint TO-252_3
pins: 1 G, 2 D, 3 S

## JST-PH-2PINS
designator J?
CONN HEADER PH SIDE 2POS 2MM SMD; Manufacturer: JST Sales America Inc; Manufacturer Part Number: S2B-PH-SM4-TB(LF)(SN); Connector Type: Header, Shrouded; Number of Positions: 2; Number of Positions Loaded: All; Pitch: 0.079" (2.00mm); Supplier 1: Digi-Key; RoHS: RoHS Compliant; Category: Connectors, Interconnects; Stock 1: 51442; Pricing 1: 1=0.56, 10=0.521, 50=0.4168, 100=0.3994, 250=0.36472, 500=0.34734 (USD); Packaging: Cut Tape (CT); Contact Type: Male Pin; Number of Rows: 1; Row Spacing: -; Contact Mating Length: -; Mounting Type: Surface Mount, Right Angle; Termination: Solder; Fastening Type: -; Features: Solder Retention; Contact Finish: Tin; Contact Finish Thickness: -; Color: Natural; ComponentLink1URL: http://www.jst-mfg.com/product/pdf/eng/ePH.pdf; ComponentLink1Description: http://www.jst-mfg.com/product/pdf/eng/ePH.pdf; Supplier Part Number 1: 455-1749-1-ND
footprint JST-PH-2
pins: 1 -, 2 +

## JST-PH-3pos
designator J?
CONN HEADER R/A 3POS 2MM; Manufacturer: JST Sales America Inc.; Manufacturer Part Number: S3B-PH-K-S(LF)(SN); Pitch - Mating: 0.079" (2.00mm); Number of Positions: 3; Number of Positions Loaded: All; Style: Board to Cable/Wire; Shrouding: Shrouded - 4 Wall; Contact Length - Mating: 0.130" (3.30mm); Contact Length - Post: 0.134" (3.40mm); Material Flammability Rating: UL94 V-0; Current Rating: 2A; Voltage Rating: 100V; Supplier 1: Digi-Key; RoHS: RoHS Compliant; Category: Connectors, Interconnects; Stock 1: 90599; Pricing 1: 1=0.18, 10=0.169, 100=0.1173, 500=0.09924, 1000=0.08119, 5000=0.07217, 10000=0.06541 (USD); Packaging: Bulk; Part Status: Active; Connector Type: Header; Contact Type: Male Pin; Number of Rows: 1; Row Spacing - Mating: -; Mounting Type: Through Hole, Right Angle; Termination: Press-Fit, Solder; Fastening Type: Detent Lock; Overall Contact Length: -; Insulation Height: 0.189" (4.80mm); Contact Shape: Square; Contact Finish - Mating: Tin; Contact Finish Thickness - Mating: -; Contact Finish - Post: Tin; Contact Material: Brass; Insulation Material: Polyamide (PA66), Nylon 6/6; Features: -; Operating Temperature: -25°C ~ 85°C; Ingress Protection: -; Insulation Color: Natural; Mated Stacking Heights: -; Contact Finish Thickness - Post: -; Applications: -; ComponentLink1URL: http://www.jst-mfg.com/product/pdf/eng/ePH.pdf; ComponentLink1Description: http://www.jst-mfg.com/product/pdf/eng/ePH.pdf; Supplier Part Number 1: 455-1720-ND
footprint S3B-PH-K-S
pins: 1, 2, 3

## JST-PH-4Pin
designator J?
CONN HEADER R/A 4POS 2MM; Manufacturer: JST Sales America Inc.; Manufacturer Part Number: S4B-PH-K-S(LF)(SN); Pitch - Mating: 0.079" (2.00mm); Number of Positions: 4; Number of Positions Loaded: All; Style: Board to Cable/Wire; Shrouding: Shrouded - 4 Wall; Contact Length - Mating: 0.130" (3.30mm); Contact Length - Post: 0.134" (3.40mm); Material Flammability Rating: UL94 V-0; Current Rating: 2A; Voltage Rating: 100V; Supplier 1: Digi-Key; RoHS: RoHS Compliant; Category: Connectors, Interconnects; Stock 1: 193752; Pricing 1: 1=0.22, 10=0.208, 100=0.144, 500=0.12186, 1000=0.0997, 5000=0.08862, 10000=0.08031 (USD); Packaging: Bulk; Part Status: Active; Connector Type: Header; Contact Type: Male Pin; Number of Rows: 1; Row Spacing - Mating: -; Mounting Type: Through Hole, Right Angle; Termination: Press-Fit, Solder; Fastening Type: Detent Lock; Overall Contact Length: -; Insulation Height: 0.189" (4.80mm); Contact Shape: Square; Contact Finish - Mating: Tin; Contact Finish Thickness - Mating: -; Contact Finish - Post: Tin; Contact Material: Brass; Insulation Material: Polyamide (PA66), Nylon 6/6; Features: -; Operating Temperature: -25°C ~ 85°C; Ingress Protection: -; Insulation Color: Natural; Mated Stacking Heights: -; Contact Finish Thickness - Post: -; Applications: -; ComponentLink1URL: http://www.jst-mfg.com/product/pdf/eng/ePH.pdf; ComponentLink1Description: http://www.jst-mfg.com/product/pdf/eng/ePH.pdf; Supplier Part Number 1: 455-1721-ND
footprint S4B-PH-K-S
pins: 1, 2, 3, 4

## JUWT1105MCD SUPERCAP
designator C?, comment 1F
CAP 1F 20% 2.7V THROUGH HOLE; Manufacturer: Nichicon; Manufacturer Part Number: JUWT1105MCD; ESR (Equivalent Series Resistance): 4 Ohm @ 1kHz; Lifetime @ Temp.: 1000 Hrs @ 70°C; Supplier 1: Digi-Key; RoHS: RoHS Compliant; Category: Capacitors; Stock 1: 230175; Pricing 1: 1=1.02, 10=0.773, 100=0.5527, 500=0.42786, 1000=0.36844, 2500=0.34466, 5000=0.32684 (USD); Packaging: Bulk; Part Status: Active; Tolerance: ±20%; Termination: PC Pins; Mounting Type: Through Hole; Package / Case: Radial, Can; Lead Spacing: 0.098" (2.50mm); Size / Dimension: 0.248" Dia (6.30mm); Height - Seated (Max): 0.413" (10.50mm); Operating Temperature: -25°C ~ 70°C; ComponentLink1URL: http://nichicon-us.com/english/products/pdfs/e-juw.pdf; ComponentLink1Description: http://nichicon-us.com/english/products/pdfs/e-juw.pdf; Supplier Part Number 1: 493-4330-ND
footprint SuperCap1F
pins: 1, 2

## L5973D
designator U?
IC REG BUCK ADJ 2.5A SOIC8; Manufacturer: STMicroelectronics; Manufacturer Part Number: L5973D; Output Type: Adjustable; Number of Outputs: 1; Voltage - Output: 1.24 V ~ 35 V; Voltage - Input: 4 V ~ 36 V; Frequency - Switching: 250kHz; Synchronous Rectifier: No; Supplier 1: Digi-Key; RoHS: RoHS Compliant; Category: Integrated Circuits (ICs); Stock 1: 982; Pricing 1: 1=2.85, 10=2.548, 25=2.2928, 100=2.089, 250=1.88516, 500=1.69154, 1000=1.4266, 2500=1.35527 (USD); Packaging: Tube; Type: Step-Down (Buck); PWM Type: -; Current - Output: 2.5A; Operating Temperature: -40°C ~ 150°C; Mounting Type: Surface Mount; Package / Case: 8-SOIC (0.154", 3.90mm Width) Exposed Pad; Supplier Device Package: 8-HSOP; ComponentLink1URL: http://www.st.com/web/en/resource/technical/document/datasheet/CD00002851.pdf; ComponentLink1Description: http://www.st.com/web/en/resource/technical/document/datasheet/CD00002851.pdf; Supplier Part Number 1: 497-14766-5-ND
footprint HSOIC-8_L (SOIC, 8-Leads, Body 4,90x3,90mm, Pitch 1,27mm, Thermal Pad 3,20.2x2,20.2mm, IPC High Density)
footprint HSOIC-8_N (SOIC, 8-Leads, Body 4,90x3,90mm, Pitch 1,27mm, Thermal Pad 3,20.2x2,00.2mm, IPC Medium Density)
footprint HSOIC_8_M (SOIC, 8-Leads, Body 4,90x3,90mm, Pitch 1,27mm, Thermal Pad 3,20.2x1,80.2mm, IPC Low Density)
pins: 1 VOUT, 2 SYNC, 3 INH, 4 COMP, 5 FB, 6 VREF, 7 GND, 8 VCC, 9 GND

## L_SMD
designator L?, comment 10nH
Value: 10nH
footprint R0603_N (Chip Resistor, 2-Leads, Body 1,60x0,85mm, IPC Medium Density)
footprint R0603_M (Chip Resistor, 2-Leads, Body 1,60x0,85mm, IPC Low Density)
footprint R0603_L (Chip Resistor, 2-Leads, Body 1,60x0,85mm, IPC High Density)
pins: 1, 2

## LED BICOLOR SMD
designator LED?  (value not drawn)
LED BICOLOR GN/HER DIFF SMD; Manufacturer: Avago Technologies US Inc.; Manufacturer Part Number: HSMF-C155; Color: Green, Red; Wavelength - Dominant: 572nm Green, 626nm Red; Wavelength - Peak: 570nm Green, 630nm Red; Millicandela Rating: 15mcd Green, 10mcd Red; Voltage - Forward (Vf) (Typ): 2.2V Green, 2.1V Red; Current - Test: 20mA Green, 20mA Red; Viewing Angle: 170°; Lens Transparency: Diffused; Lens Color: White; Lens Style/Size: Rectangle with Flat Top, 2.06mm x 2.70mm; Supplier 1: Digi-Key; RoHS: RoHS Compliant; Category: Optoelectronics; Stock 1: 52010; Pricing 1: 1=0.49, 10=0.378, 25=0.308, 100=0.245, 250=0.21, 500=0.182, 1000=0.14 (USD); Packaging: Cut Tape (CT); Package / Case: 1210 (3225 Metric); Supplier Device Package: Chip LED; Size / Dimension: 3.20mm L x 2.70mm W; Height (Max): 1.10mm; Mounting Type: Surface Mount; ComponentLink1URL: http://www.avagotech.com/docs/AV02-0427EN; ComponentLink1Description: http://www.avagotech.com/docs/AV02-0427EN; Supplier Part Number 1: 516-1456-1-ND
footprint BICOLOR_LED_SMD
pins: 1 A1, 2 K1, 3 A2, 4 K2
text: G; R

## LED RGB CLEAR 5MM ROUND T/H
designator LED?  (value not drawn)
LED RGB CLEAR 5MM ROUND T/H; Manufacturer: Kingbright; Manufacturer Part Number: WP154A4SUREQBFZGC; Color: Red, Green, Blue (RGB); Wavelength - Dominant: 630nm Red, 525nm Green, 465nm Blue; Wavelength - Peak: 645nm Red, 515nm Green, 460nm Blue; Millicandela Rating: 1300mcd Red, 1700mcd Green, 900mcd Blue; Voltage - Forward (Vf) (Typ): 1.9V Red, 3.3V Green, 3.3V Blue; Current - Test: 20mA Red, 20mA Green, 20mA Blue; Viewing Angle: 50°; Lens Color: Colorless; Lens Style/Size: Round with Domed Top, 5mm (T-1 3/4), 5.00mm; Supplier 1: Digi-Key; RoHS: RoHS Compliant; Category: Optoelectronics; Stock 1: 10943; Pricing 1: 1=1.89, 10=1.534, 25=1.18, 100=1.062, 250=0.944, 500=0.8024, 1000=0.6608 (USD); Packaging: Bulk; Lens Transparency: Clear; Package / Case: Radial - 4 Leads; Supplier Device Package: T-1 3/4; Size / Dimension: -; Height (Max): 8.60mm; Mounting Type: Through Hole; ComponentLink1URL: http://www.kingbrightusa.com/images/catalog/SPEC/WP154A4SUREQBFZGC.pdf; ComponentLink1Description: http://www.kingbrightusa.com/images/catalog/SPEC/WP154A4SUREQBFZGC.pdf; Supplier Part Number 1: 754-1615-ND
footprint RGB-LED-5mm-TH
pins: 1 RA, 2 K, 3 BA, 4 GA
text: R; G; B

## LED RGB SMD
designator LED?
LED RGB 605/525/470NM DIFF SMD; Manufacturer: Lite-On Inc; Manufacturer Part Number: LTST-C19FD1WT; Color: Red, Green, Blue (RGB); Wavelength - Dominant: 605nm Red, 525nm Green, 470nm Blue; Wavelength - Peak: 611nm Red, 520nm Green, 468nm Blue; Millicandela Rating: 113mcd Red, 260.5mcd Green, 104mcd Blue; Voltage - Forward (Vf) (Typ): 2V Red, 3.5V Green, 3.5V Blue; Current - Test: 20mA Red, 20mA Green, 20mA Blue; Viewing Angle: 130°; Lens Transparency: Diffused; Lens Color: White; Lens Style/Size: Rectangle with Flat Top; Supplier 1: Digi-Key; RoHS: RoHS Compliant; Category: Optoelectronics; Stock 1: 4380; Pricing 1: 1=0.6, 10=0.462, 100=0.2993, 250=0.25652, 500=0.2223, 1000=0.171 (USD); Packaging: Cut Tape (CT); Package / Case: 4-SMD, No Lead; Supplier Device Package: Chip LED; Size / Dimension: 2.10mm L x 1.60mm W; Height (Max): 0.55mm; Mounting Type: Surface Mount; ComponentLink1URL: http://optoelectronics.liteon.com/upload/download/DS22-2001-076/S_110_LTST-C19FD1WT.pdf; ComponentLink1Description: http://optoelectronics.liteon.com/upload/download/DS22-2001-076/S_110_LTST-C19FD1WT.pdf; Supplier Part Number 1: 160-2022-1-ND
footprint RGB_LED_SMD
pins: 1 BK, 2 RK, 3 GK, 4 A
text: R; G; B

## LED_SMD
designator D?, comment Green
Color: Green
footprint D0603_L (Chip Diode, 2-Leads, Body 1.60x0.82mm, IPC High Density)
footprint D0603_M (Chip Diode, 2-Leads, Body 1.60x0.82mm, IPC Low Density)
footprint D0603_N (Chip Diode, 2-Leads, Body 1.60x0.82mm, IPC Medium Density)
pins: 1 K, 2 A

## LL4148
designator D?
DIODE SMALL SIG 100V 0.2A SOD80; Manufacturer: Fairchild Semiconductor; Manufacturer Part Number: LL4148; Diode Type: Standard; Current - Average Rectified (Io): 200mA; Voltage - Forward (Vf) (Max) @ If: 1V @ 10mA; Speed: Small Signal =< 200mA (Io), Any Speed; Reverse Recovery Time (trr): 4ns; Current - Reverse Leakage @ Vr: 25nA @ 20V; Capacitance @ Vr, F: 4pF @ 0V, 1MHz; Supplier 1: Digi-Key; RoHS: RoHS Compliant; Category: Discrete Semiconductor Products; Stock 1: 155674; Pricing 1: 1=0.1, 10=0.068, 25=0.062, 100=0.0445, 250=0.0262, 500=0.02174, 1000=0.01483 (USD); Packaging: Cut Tape (CT); Voltage - DC Reverse (Vr) (Max): 100V; Mounting Type: Surface Mount; Package / Case: SOD-80; Supplier Device Package: SOD-80; Operating Temperature - Junction: -55°C ~ 175°C; ComponentLink1URL: http://www.fairchildsemi.com/ds/LL/LL4148.pdf; ComponentLink1Description: http://www.fairchildsemi.com/ds/LL/LL4148.pdf; Supplier Part Number 1: LL4148FSCT-ND
footprint SOD-80_M (MELF Diode, 2-Leads, Body 3,45x1,40mm, IPC Low Density)
footprint SOD-80_L (MELF Diode, 2-Leads, Body 3,45x1,40mm, IPC High Density)
footprint SOD-80_N (MELF Diode, 2-Leads, Body 3,45x1,40mm, IPC Medium Density)
pins: 1 A, 2 K

## LM35DZ/LFT1
designator U?
IC SENSOR PREC CENT TEMP TO92-3; Manufacturer: Texas Instruments; Manufacturer Part Number: LM35DZ/LFT1; Sensing Temperature: 0°C ~ 100°C; Output Type: Linear Voltage; Voltage - Supply: 4 V ~ 30 V; Accuracy: ±0.6°C; Supplier 1: Digi-Key; RoHS: RoHS Compliant; Category: Sensors, Transducers; Stock 1: 630; Pricing 1: 1=1.57, 10=1.392, 25=1.2572, 100=1.1001, 250=0.96536, 500=0.8531, 1000=0.6735, 2500=0.6286, 5000=0.59717 (USD); Packaging: Bulk; Package / Case: TO-226-3, TO-92-3 (TO-226AA); Supplier Device Package: TO-92-3; ComponentLink1URL: http://www.ti.com/lit/ds/symlink/lm35.pdf; ComponentLink1Description: http://www.ti.com/lit/ds/symlink/lm35.pdf; Supplier Part Number 1: 296-35151-ND
footprint Z03A (TO, Flat Index; 3 In-Line, Axial Leads; Body Dia. 5mm; Leads 0.55 x 0.50 mm (max))
pins: 1 +VS (in), 2 VO (out), 3 GND (power)

## LM358ADR
designator U?
IC OPAMP GP 700KHZ 8SOIC; Manufacturer: Texas Instruments; Manufacturer Part Number: LM358ADR; Amplifier Type: General Purpose; Slew Rate: 0.3 V/µs; Current - Supply: 1mA; Voltage - Supply, Single/Dual (±): 3 V ~ 32 V, ±1.5 V ~ 16 V; Supplier 1: Digi-Key; RoHS: RoHS Compliant; Category: Integrated Circuits (ICs); Stock 1: 172204; Pricing 1: 1=0.36, 10=0.295, 100=0.2011, 500=0.1508, 1000=0.11309 (USD); Packaging: Cut Tape (CT); Part Status: Active; Output Type: -; Operating Temperature: 0°C ~ 70°C; Mounting Type: Surface Mount; Package / Case: 8-SOIC (0.154", 3.90mm Width); Supplier Device Package: 8-SOIC; Base Part Number: LM358; ComponentLink1URL: http://www.ti.com/lit/ds/symlink/lm358.pdf; ComponentLink1Description: http://www.ti.com/lit/ds/symlink/lm358.pdf; Supplier Part Number 1: 296-14601-1-ND
footprint SOIC8_L (SOIC, 8-Leads, Body 4.90x3.90mm, Pitch 1.27mm, IPC High Density)
footprint SOIC8_M (SOIC, 8-Leads, Body 4.90x3.90mm, Pitch 1.27mm, IPC Low Density)
footprint SOIC8_N (SOIC, 8-Leads, Body 4.90x3.90mm, Pitch 1.27mm, IPC Medium Density)
part A pins: 1 OUT1, 2 IN1-, 3 IN1+, 4 V-, 8 V+
part B pins: 5 IN2+, 6 IN2-, 7 OUT2

## LM1086ISX-5.0/NOPB
designator U?
1.5A Low Dropout Positive Regulators, 3-pin TO-263, Pb-Free; PartNumber: LM1086ISX-5.0/NOPB; Manufacturer: National Semiconductor; PackageTopMarking: NSUZXYTTE#*LM1086*IS-5.0; PowerWise: N; CompType: LDO IC; Published: 1-Mar-2010; DatasheetVersion: Jun-2005; PackageVersion: revF, Apr-2005; PackageReference: TS3B; Publisher: Altium Limited; PackageDescription: TO-263, Molded, .400 x .390 x .180in, 3 Lead, .1in Pitch, Surface Mount; Supplier 1: Digi-Key; Supplier Part Number 1: LM1086ISX-5.0-ND; RoHS: Y; PinCount: 3; Code_JEDEC: MO-169-AA; ComponentLink1Description: LM1086 Datasheet; ComponentLink1URL: http://www.national.com/ds/LM/LM1086.pdf; ComponentLink2Description: LM1086 Web Page; ComponentLink2URL: http://www.national.com/pf/LM/LM1086.html; ComponentLink3Description: TS3B Package Page; ComponentLink3URL: http://www.national.com/packaging/folders/ts3b.html
footprint TS3B_N (D2-PAK, 4-Leads, Body 8.6x10.2mm, Pitch 2.54mm, Lead Span 14.2mm, IPC Medium Density)
footprint TS3B_L (D2-PAK, 4-Leads, Body 8.6x10.2mm, Pitch 2.54mm, Lead Span 14.2mm, IPC High Density)
footprint TS3B_M (D2-PAK, 4-Leads, Body 8.6x10.2mm, Pitch 2.54mm, Lead Span 14.2mm, IPC Low Density)
pins: 1 GND (power), 2 OUT (power), 3 IN (power), 4 TAB (power)